# EAGLE library part TL494CN (library HelaTronix - Power)
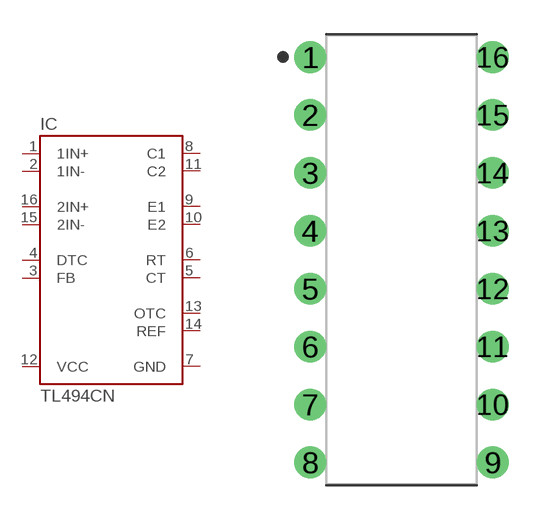
[diagram p0: symbol with the pads of DIP800W53P254L1969H508Q16B; footprint DIP800W53P254L1969H508Q16B]

Designator prefix IC

## TL494CN (LCSC#: C5214; LCSC_LINK: https://lcsc.com/product-detail/Switching-Controllers_Texas-Instruments-Texas-Instruments-TL494CN_C5214.html; MANUFACTURER: Texas Instruments; MFR#: TL494CN)  [DIP800W53P254L1969H508Q16B]
1  1IN+
2  1IN-
3  FB
4  DTC
5  CT
6  RT
7  GND
8  C1
9  E1
10  E2
11  C2
12  VCC
13  OTC
14  REF
15  2IN-
16  2IN+

## Footprint DIP800W53P254L1969H508Q16B (pad centres in mm)
16-DIP, 2.54 mm (0.10 in) pitch, 8.00 mm (0.31 in) span, 19.69 X 6.60 X 5.08 mm body 16-pin DIP package with 2.54 mm (0.10 in) pitch, 8.00 mm (0.31 in) span with body size 19.69 X 6.60 X 5.08 mm
drill 0.786 pad 1.386: 1 -4,8.89; 2 -4,6.35; 3 -4,3.81; 4 -4,1.27; 5 -4,-1.27; 6 -4,-3.81; 7 -4,-6.35; 8 -4,-8.89; 9 4,-8.89; 10 4,-6.35; 11 4,-3.81; 12 4,-1.27; 13 4,1.27; 14 4,3.81; 15 4,6.35; 16 4,8.89